# EAGLE library part AP3402KTTR-G1 (library AP3402KTTR-G1)
Switching Voltage Regulators 1.0MHz 2A Step Down DC-DC Buck 2A Output Source: Datasheet <https://datasheet.datasheetarchive.com/originals/distributors/DKDS-29/576309.pdf>
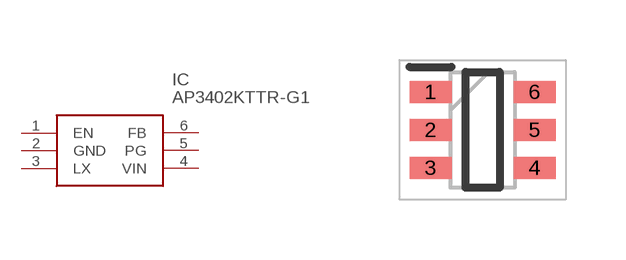
[diagram p0: symbol with the pads of SOT95P280X100-6N; footprint SOT95P280X100-6N]

Designator prefix IC

## AP3402KTTR-G1 (Arrow_Part_Number: AP3402KTTR-G1; Arrow_Price-Stock: https://www.arrow.com/en/products/ap3402kttr-g1/diodes-incorporated?region=nac; Description: Switching Voltage Regulators 1.0MHz 2A Step Down DC-DC Buck 2A Output; Height: 1mm; Manufacturer_Name: Diodes Inc.; Manufacturer_Part_Number: AP3402KTTR-G1; Mouser_Part_Number: 621-AP3402KTTR-G1; Mouser_Price-Stock: https://www.mouser.co.uk/ProductDetail/Diodes-Incorporated/AP3402KTTR-G1?qs=LJyqx%252Bm7g4f%252B%2FVb1cFR9iQ%3D%3D)  [SOT95P280X100-6N]
1  EN
2  GND
3  LX
4  VIN
5  PG
6  FB

## Footprint SOT95P280X100-6N (pad centres in mm)
AP3402KTTR-G1-1
smd 1.05 x 0.55: 1 -1.3,0.95; 2 -1.3,0; 3 -1.3,-0.95; 4 1.3,-0.95; 5 1.3,0; 6 1.3,0.95